# EAGLE library part 750316878 (library WE-OLSTM)
WE-OLSTM Offline Flyback Transformers Characteristics Nominal input voltage: 85–265 VAC (120–375 VDC) Operating temperature: –40 °C to +125 °C Isolation voltage: 2 kVAC up to 5 kVAC Multiple output options Options for fixed frequency or quasi-resonant mode operation Most products meet reinforced insulation Applications Offline-switch mode power supplies Especially designed for several ICs from STMicroelectronics Auxiliary power supply Home appliances Consumer electronics <https://www.we-online.com/components/media/o781306v209%20FAMILY-MID-OLSTM.jpg> Details see: www.we-online.com/en/components/products/WE-OLSTM <www.we-online.com/en/components/products/WE-OLSTM/?utm_source=eagle_model&utm_medium=description_link&utm_campaign=eisos_eagle> Created by Leviosa 2024-04-15 2024(C) Wurth Elektronik
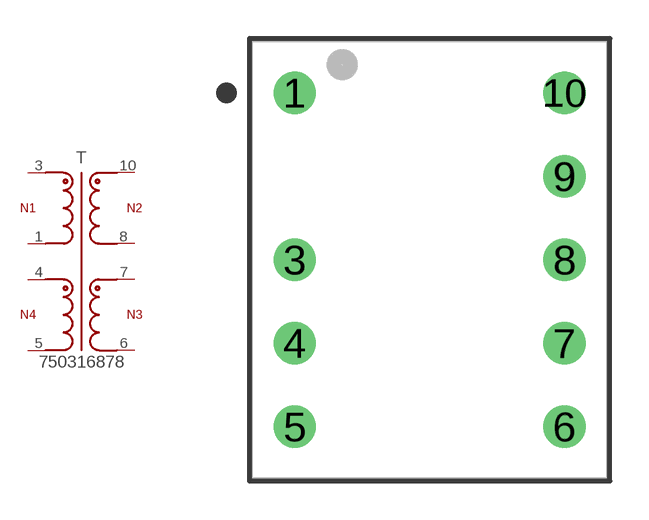
[diagram p26: symbol with the pads of WE-OLSTM_EE16_L17.04W13.84H22.55; footprint WE-OLSTM_EE16_L17.04W13.84H22.55]

Designator prefix T

## 750316878 (DATASHEET-URL: https://www.we-online.com/redexpert/spec/750316878?ae; FSWITCH: 80kHz; IOUT1: 700mA; IOUT2: 100mA; ISAT: 470mA; L: 2.2mH; MOUNT: THT; N: 23.33:1.67:1:2.83; PART-NUMBER: 750316878; SIZE: EE16/7/5; VALUE: 750316878; VAUX: 15V; VIN: 85 - 265 V (AC); VOUT1: 13V; VOUT2: 4.5V; VT: 4000V(AC))  [WE-OLSTM_EE16_L17.04W13.84H22.55]
1  1  pas
3  3  pas
4  4  pas
5  5  pas
6  6  pas
7  7  pas
8  8  pas
10  10  pas

## Footprint WE-OLSTM_EE16_L17.04W13.84H22.55 (pad centres in mm)
WE-OLSTM Offline Flyback Transformers for STMicroelectronics Size: EE16, THT, 9Pins LXWXH=13.84X17.04X22.55mm
drill 1.1: 1 -5.25,6.5; 3 -5.25,0; 4 -5.25,-3.25; 5 -5.25,-6.5; 6 5.25,-6.5; 7 5.25,-3.25; 8 5.25,0; 9 5.25,3.25; 10 5.25,6.5